# Altium schematic symbol library TIP120.SchLib: 1 symbol
Pins are listed as number, name and electrical type; pins without a type are passive.

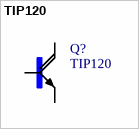
[diagram p0: symbol TIP120]

## TIP120
designator Q?
Bipolar _BJT_ Transistor NPN - Darlington 60V 5A 2W Through Hole TO-220-3; MF: ON Semiconductor; SnapEDA_Link: https://www.snapeda.com/parts/TIP120/ON%20Semiconductor/view-part/2842527/?ref=snap; Price: None; Availability: Unavailable; Package: TO-220-3 Bourns; MP: TIP120; Value: *
footprint *TO220AH_TIP120(Primary)
pins: B, C, E